# EAGLE library part F-2X03- (library con-headers-jp)
FEMALE HEADER
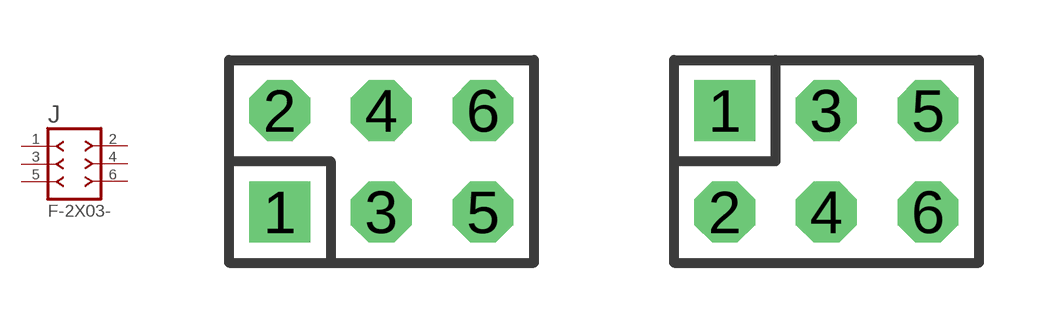
[diagram p32: symbol with the pads of DIL-100-2X03; footprints DIL-100-2X03, DIL-100-2X03_M]

Designator prefix J

## F-2X03-DIL-100  [DIL-100-2X03]
1  1  pas
2  2  pas
3  3  pas
4  4  pas
5  5  pas
6  6  pas

## F-2X03-DIL-100_M  [DIL-100-2X03_M]
Pads as for DIL-100-2X03

## F-2X03-DIL-2MM  [DIL-2MM-2X03]
Pads as for DIL-100-2X03

## F-2X03-DIL-2MM_M  [DIL-2MM-2X03_M]
Pads as for DIL-100-2X03

## F-2X03-79107  [79107-06]
Pads as for DIL-100-2X03

## F-2X03-79107_M  [79107-06_M]
Pads as for DIL-100-2X03

## Footprint DIL-100-2X03 (pad centres in mm)
PIN HEADER - 0.1"
drill 1.016 square: 1 -2.54,-1.27
drill 1.016 octagon: 2 -2.54,1.27; 3 0,-1.27; 4 0,1.27; 5 2.54,-1.27; 6 2.54,1.27

## Footprint DIL-100-2X03_M (pad centres in mm)
PIN HEADER - MIRRORED 0.1"
drill 1.016 square: 1 -2.54,1.27
drill 1.016 octagon: 2 -2.54,-1.27; 3 0,1.27; 4 0,-1.27; 5 2.54,1.27; 6 2.54,-1.27

## Footprint DIL-2MM-2X03 (pad centres in mm)
PIN HEADER - 2MM"
drill 0.711 pad 1.321 square: 1 -2,-1
drill 0.711 pad 1.321: 2 -2,1; 3 0,-1; 4 0,1; 5 2,-1; 6 2,1

## Footprint DIL-2MM-2X03_M (pad centres in mm)
PIN HEADER - MIRRORED 2MM
drill 0.711 pad 1.321 square: 1 -2,1
drill 0.711 pad 1.321: 2 -2,-1; 3 0,1; 4 0,-1; 5 2,1; 6 2,-1

## Footprint 79107-06 (pad centres in mm)
Molex Board-To-Board Receptacal 2.00mm (.079") Pitch Milli-Grid Header, Vertical, Through-Hole Mates with: 87759, 87762, 87758, 87760
drill 0.711 square: 1 -2,-1
drill 0.711: 2 -2,1; 3 0,-1; 4 0,1; 5 2,-1; 6 2,1

## Footprint 79107-06_M (pad centres in mm)
Molex Board-To-Board Receptacal - MIRRORED 2.00mm (.079") Pitch Milli-Grid Header, Vertical, Through-Hole Mates with: 87759, 87762, 87758, 87760
drill 0.711 square: 1 -2,1
drill 0.711: 2 -2,-1; 3 0,1; 4 0,-1; 5 2,1; 6 2,-1